# Altium schematic symbol library Miscellaneous_Devices_SchLib.SchLib: 1 symbol
Pins are listed as number, name and electrical type; pins without a type are passive.

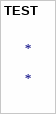
[diagram p0: symbol TEST]

## TEST
designator *
TEST